# EAGLE library part F-1X06- (library con-headers-jp)
FEMALE HEADER
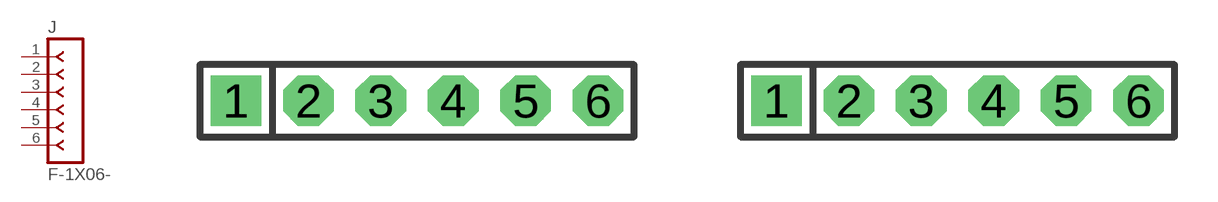
[diagram p20: symbol with the pads of SIP-100-06-40; footprints SIP-100-06-40, SIP-100-06-32]

Designator prefix J

## F-1X06-SIP-100-40  [SIP-100-06-40]
1  1  pas
2  2  pas
3  3  pas
4  4  pas
5  5  pas
6  6  pas

## F-1X06-SIP-100-32  [SIP-100-06-32]
Pads as for SIP-100-06-40

## F-1X06-SIP-100-32Y  [SIP-100-06-32Y]
Pads as for SIP-100-06-40

## F-1X06-SIP-100-40Y  [SIP-100-06-40Y]
Pads as for SIP-100-06-40

## F-1X06-KK-4455-B06  [KK-4455-B06]
Pads as for SIP-100-06-40

## F-1X06-KK-4455-C06  [KK-4455-C06]
Pads as for SIP-100-06-40

## F-1X06-KK-4455-A06  [KK-4455-A06]
Pads as for SIP-100-06-40

## F-1X06-SIP-050-06  [SIP-050-06]
Pads as for SIP-100-06-40

## Footprint SIP-100-06-40 (pad centres in mm)
SIP Header - 0.1", 40 mil drill
drill 1.016 pad 1.778 square: 1 -6.35,0
drill 1.016 pad 1.778 octagon: 2 -3.81,0; 3 -1.27,0; 4 1.27,0; 5 3.81,0; 6 6.35,0

## Footprint SIP-100-06-32 (pad centres in mm)
SIP Header - 0.1", 32 mil drill
drill 0.813 pad 1.778 square: 1 -6.35,0
drill 0.813 pad 1.778 octagon: 2 -3.81,0; 3 -1.27,0; 4 1.27,0; 5 3.81,0; 6 6.35,0

## Footprint SIP-100-06-32Y (pad centres in mm)
SIP Header - 0.1", 32 mil drill
drill 0.813 long: 1 -6.35,0; 2 -3.81,0; 3 -1.27,0; 4 1.27,0; 5 3.81,0; 6 6.35,0

## Footprint SIP-100-06-40Y (pad centres in mm)
SIP Header - 0.1", 40 mil drill
drill 1.016 long: 1 -6.35,0; 2 -3.81,0; 3 -1.27,0; 4 1.27,0; 5 3.81,0; 6 6.35,0

## Footprint KK-4455-B06 (pad centres in mm)
KK100 Molex 4455 Series, Vertical, Bottom Entry, 0.1" pitch
drill 1.067 long: 1 -6.35,0; 2 -3.81,0; 3 -1.27,0; 4 1.27,0; 5 3.81,0; 6 6.35,0
hole 1.778 at -6.35,3.81
hole 1.778 at -3.81,3.81
hole 1.778 at -1.27,3.81
hole 1.778 at 1.27,3.81
hole 1.778 at 3.81,3.81
hole 1.778 at 6.35,3.81

## Footprint KK-4455-C06 (pad centres in mm)
KK100 Molex 4455 Series, Vertical, Top Entry, 0.1" pitch
drill 1.016 pad 1.778 octagon: 1 -6.35,0; 2 -3.81,0; 3 -1.27,0; 4 1.27,0; 5 3.81,0; 6 6.35,0
hole 1.778 at -6.35,2.54
hole 1.778 at -3.81,2.54
hole 1.778 at -1.27,2.54
hole 1.778 at 1.27,2.54
hole 1.778 at 3.81,2.54
hole 1.778 at 6.35,2.54

## Footprint KK-4455-A06 (pad centres in mm)
KK100 Molex 4455 Series, Right Angle, 0.1" pitch
drill 1.067 long: 1 -6.35,0; 2 -3.81,0; 3 -1.27,0; 4 1.27,0; 5 3.81,0; 6 6.35,0

## Footprint SIP-050-06 (pad centres in mm)
HEADER
drill 0.508: 1 -3.175,0; 2 -1.905,0; 3 -0.635,0; 4 0.635,0; 5 1.905,0; 6 3.175,0